# Altium footprint library V_4.PcbLib: 4 footprints
Each footprint in its own frame and in the unit in brackets; x right, y up, seen from the top. Pads: shape width x height; smd on the part's side, far side on the other; paste and mask are expansions set on the pad; w line width, h text height; cw(c..) or ccw(c..) is an arc to the next point about the centre after c.
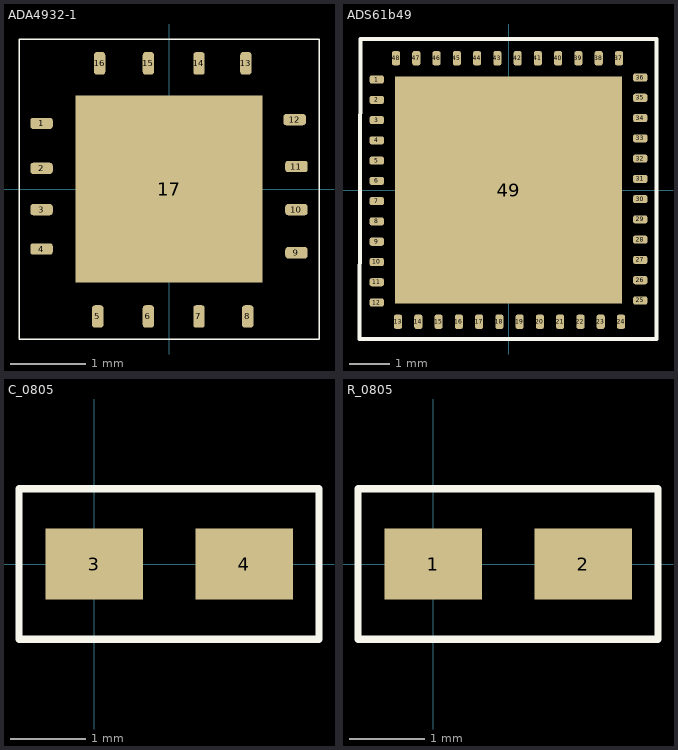
[diagram p0: the footprints below, top view; thin cyan lines are the x and y axes]

## ADA4932-1 [mm]
pads (17):
  rrect50% 0.3x0.15 smd: 1(-1.7,0.875) 2(-1.7,0.275) 3(-1.7,-0.275) 4(-1.7,-0.8) 9(1.7,-0.85) 10(1.7,-0.275) 11(1.7,0.3) 12(1.675,0.925)
  rrect50% 0.15x0.3 smd: 5(-0.95,-1.7) 6(-0.275,-1.7) 7(0.4,-1.7) 8(1.05,-1.7) 13(1.025,1.675) 14(0.4,1.675) 15(-0.275,1.675) 16(-0.925,1.675)
  rect 2.5x2.5 smd: 17(0,0)
Top Overlay:
  lines w0.02: -2,-2 -2,2 2,2 2,0 2,-2 -2,-2

## ADS61b49 [mm]
pads (49):
  rrect50% 0.35x0.2 smd: 1(-3.25,2.725) 2(-3.25,2.225) 3(-3.25,1.725) 4(-3.25,1.225) 5(-3.25,0.725) 6(-3.25,0.225) 7(-3.25,-0.275) 8(-3.25,-0.775) 9(-3.25,-1.275) 10(-3.25,-1.775) 11(-3.25,-2.275) 12(-3.25,-2.775) 25(3.25,-2.725) 26(3.25,-2.225) 27(3.25,-1.725) 28(3.25,-1.225) 29(3.25,-0.725) 30(3.25,-0.225) 31(3.25,0.275) 32(3.25,0.775) 33(3.25,1.275) 34(3.25,1.775) 35(3.25,2.275) 36(3.25,2.775)
  rrect50% 0.2x0.35 smd: 13(-2.725,-3.25) 14(-2.225,-3.25) 15(-1.725,-3.25) 16(-1.225,-3.25) 17(-0.725,-3.25) 18(-0.225,-3.25) 19(0.275,-3.25) 20(0.775,-3.25) 21(1.275,-3.25) 22(1.775,-3.25) 23(2.275,-3.25) 24(2.775,-3.25) 37(2.725,3.25) 38(2.225,3.25) 39(1.725,3.25) 40(1.225,3.25) 41(0.725,3.25) 42(0.225,3.25) 43(-0.275,3.25) 44(-0.775,3.25) 45(-1.275,3.25) 46(-1.775,3.25) 47(-2.275,3.25) 48(-2.775,3.25)
  rect 5.6x5.6 smd: 49(0,0)
Top Overlay:
  lines w0.1: -3.675,-3.675 3.65,-3.675 3.65,3.725 -3.65,3.725 -3.675,-3.675

## C_0805 [mm]
pads (2):
  rect 1.3x0.95 smd: 3(0,0) 4(2,0)
Top Overlay:
  lines w0.1: -1,-1 -1,0 -1,1 3,1 3,-1 -1,-1

## R_0805 [mm]
pads (2):
  rect 1.3x0.95 smd: 1(0,0) 2(2,0)
Top Overlay:
  lines w0.1: -1,-1 3,-1 3,1 -1,1 -1,0 -1,-1